# Altium footprint library xilinx-virtex-v5.PCBLIB: 1 footprints
Each footprint in its own frame and in the unit in brackets; x right, y up, seen from the top. Pads: shape width x height; smd on the part's side, far side on the other; paste and mask are expansions set on the pad; w line width, h text height; cw(c..) or ccw(c..) is an arc to the next point about the centre after c.
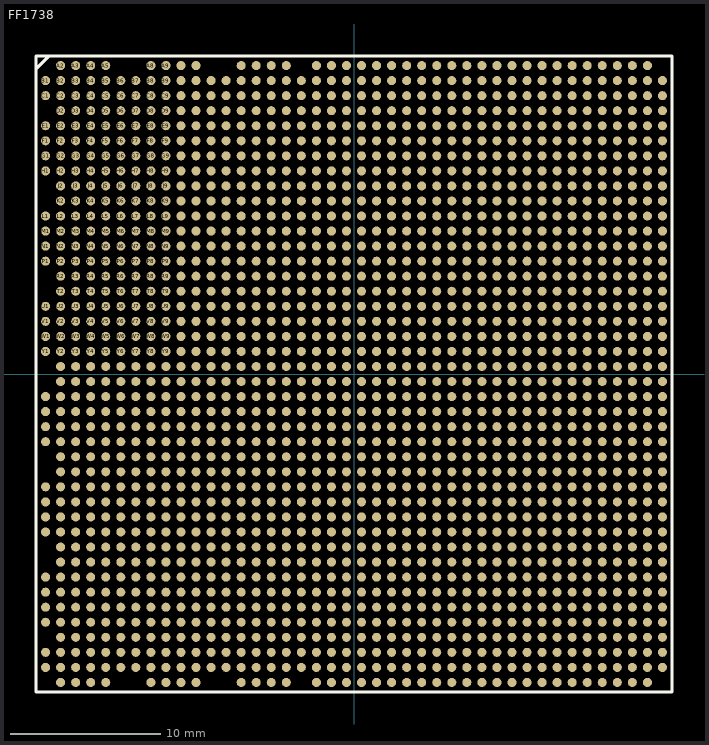
[diagram p0: the footprint, top view; thin cyan lines are the x and y axes]

## FF1738 [mil]
pads (1738):
  rrect100% 23.62x23.62 smd: A2(-767.72,807.09) A3(-728.35,807.09) A4(-688.98,807.09) A5(-649.61,807.09) A8(-531.5,807.09) A9(-492.13,807.09) A10(-452.76,807.09) A11(-413.39,807.09) A14(-295.28,807.09) A15(-255.91,807.09) A16(-216.54,807.09) A17(-177.17,807.09) A19(-98.43,807.09) A20(-59.06,807.09) A21(-19.69,807.09) A22(19.69,807.09) A23(59.06,807.09) A24(98.43,807.09) A25(137.8,807.09) A26(177.17,807.09) A27(216.54,807.09) A28(255.91,807.09) A29(295.28,807.09) A30(334.65,807.09) A31(374.02,807.09) A32(413.39,807.09) A33(452.76,807.09) A34(492.13,807.09) A35(531.5,807.09) A36(570.87,807.09) A37(610.24,807.09) A38(649.61,807.09) A39(688.98,807.09) A40(728.35,807.09) A41(767.72,807.09) AA2(-767.72,19.69) AA3(-728.35,19.69) AA4(-688.98,19.69) AA5(-649.61,19.69) AA6(-610.24,19.69) AA7(-570.87,19.69) AA8(-531.5,19.69) AA9(-492.13,19.69) AA10(-452.76,19.69) AA11(-413.39,19.69) AA12(-374.02,19.69) AA13(-334.65,19.69) AA14(-295.28,19.69) AA15(-255.91,19.69) AA16(-216.54,19.69) AA17(-177.17,19.69) AA18(-137.8,19.69) AA19(-98.43,19.69) AA20(-59.06,19.69) AA21(-19.69,19.69) AA22(19.69,19.69) AA23(59.06,19.69) AA24(98.43,19.69) AA25(137.8,19.69) AA26(177.17,19.69) AA27(216.54,19.69) AA28(255.91,19.69) AA29(295.28,19.69) AA30(334.65,19.69) AA31(374.02,19.69) AA32(413.39,19.69) AA33(452.76,19.69) AA34(492.13,19.69) AA35(531.5,19.69) AA36(570.87,19.69) AA37(610.24,19.69) AA38(649.61,19.69) AA39(688.98,19.69) AA40(728.35,19.69) AA41(767.72,19.69) AA42(807.09,19.69) AB2(-767.72,-19.69) AB3(-728.35,-19.69) AB4(-688.98,-19.69) AB5(-649.61,-19.69) AB6(-610.24,-19.69) AB7(-570.87,-19.69) AB8(-531.5,-19.69) AB9(-492.13,-19.69) AB10(-452.76,-19.69) AB11(-413.39,-19.69) AB12(-374.02,-19.69) AB13(-334.65,-19.69) AB14(-295.28,-19.69) AB15(-255.91,-19.69) AB16(-216.54,-19.69) AB17(-177.17,-19.69) AB18(-137.8,-19.69) AB19(-98.43,-19.69) AB20(-59.06,-19.69) AB21(-19.69,-19.69) AB22(19.69,-19.69) AB23(59.06,-19.69) AB24(98.43,-19.69) AB25(137.8,-19.69) AB26(177.17,-19.69) AB27(216.54,-19.69) AB28(255.91,-19.69) AB29(295.28,-19.69) AB30(334.65,-19.69) AB31(374.02,-19.69) AB32(413.39,-19.69) AB33(452.76,-19.69) AB34(492.13,-19.69) AB35(531.5,-19.69) AB36(570.87,-19.69) AB37(610.24,-19.69) AB38(649.61,-19.69) AB39(688.98,-19.69) AB40(728.35,-19.69) AB41(767.72,-19.69) AB42(807.09,-19.69) AC1(-807.09,-59.06) AC2(-767.72,-59.06) AC3(-728.35,-59.06) AC4(-688.98,-59.06) AC5(-649.61,-59.06) AC6(-610.24,-59.06) AC7(-570.87,-59.06) AC8(-531.5,-59.06) AC9(-492.13,-59.06) AC10(-452.76,-59.06) AC11(-413.39,-59.06) AC12(-374.02,-59.06) AC13(-334.65,-59.06) AC14(-295.28,-59.06) AC15(-255.91,-59.06) AC16(-216.54,-59.06) AC17(-177.17,-59.06) AC18(-137.8,-59.06) AC19(-98.43,-59.06) AC20(-59.06,-59.06) AC21(-19.69,-59.06) AC22(19.69,-59.06) AC23(59.06,-59.06) AC24(98.43,-59.06) AC25(137.8,-59.06) AC26(177.17,-59.06) AC27(216.54,-59.06) AC28(255.91,-59.06) AC29(295.28,-59.06) AC30(334.65,-59.06) AC31(374.02,-59.06) AC32(413.39,-59.06) AC33(452.76,-59.06) AC34(492.13,-59.06) AC35(531.5,-59.06) AC36(570.87,-59.06) AC37(610.24,-59.06) AC38(649.61,-59.06) AC39(688.98,-59.06) AC40(728.35,-59.06) AC41(767.72,-59.06) AC42(807.09,-59.06) AD1(-807.09,-98.43) AD2(-767.72,-98.43) AD3(-728.35,-98.43) AD4(-688.98,-98.43) AD5(-649.61,-98.43) AD6(-610.24,-98.43) AD7(-570.87,-98.43) AD8(-531.5,-98.43) AD9(-492.13,-98.43) AD10(-452.76,-98.43) AD11(-413.39,-98.43) AD12(-374.02,-98.43) AD13(-334.65,-98.43) AD14(-295.28,-98.43) AD15(-255.91,-98.43) AD16(-216.54,-98.43) AD17(-177.17,-98.43) AD18(-137.8,-98.43) AD19(-98.43,-98.43) AD20(-59.06,-98.43) AD21(-19.69,-98.43) AD22(19.69,-98.43) AD23(59.06,-98.43) AD24(98.43,-98.43) AD25(137.8,-98.43) AD26(177.17,-98.43) AD27(216.54,-98.43) AD28(255.91,-98.43) AD29(295.28,-98.43) AD30(334.65,-98.43) AD31(374.02,-98.43) AD32(413.39,-98.43) AD33(452.76,-98.43) AD34(492.13,-98.43) AD35(531.5,-98.43) AD36(570.87,-98.43) AD37(610.24,-98.43) AD38(649.61,-98.43) AD39(688.98,-98.43) AD40(728.35,-98.43) AD41(767.72,-98.43) AD42(807.09,-98.43) AE1(-807.09,-137.8) AE2(-767.72,-137.8) AE3(-728.35,-137.8) AE4(-688.98,-137.8) AE5(-649.61,-137.8) AE6(-610.24,-137.8) AE7(-570.87,-137.8) AE8(-531.5,-137.8) AE9(-492.13,-137.8) AE10(-452.76,-137.8) AE11(-413.39,-137.8) AE12(-374.02,-137.8) AE13(-334.65,-137.8) AE14(-295.28,-137.8) AE15(-255.91,-137.8) AE16(-216.54,-137.8) AE17(-177.17,-137.8) AE18(-137.8,-137.8) AE19(-98.43,-137.8) AE20(-59.06,-137.8) AE21(-19.69,-137.8) AE22(19.69,-137.8) AE23(59.06,-137.8) AE24(98.43,-137.8) AE25(137.8,-137.8) AE26(177.17,-137.8) AE27(216.54,-137.8) AE28(255.91,-137.8) AE29(295.28,-137.8) AE30(334.65,-137.8) AE31(374.02,-137.8) AE32(413.39,-137.8) AE33(452.76,-137.8) AE34(492.13,-137.8) AE35(531.5,-137.8) AE36(570.87,-137.8) AE37(610.24,-137.8) AE38(649.61,-137.8) AE39(688.98,-137.8) AE40(728.35,-137.8) AE41(767.72,-137.8) AE42(807.09,-137.8) AF1(-807.09,-177.17) AF2(-767.72,-177.17) AF3(-728.35,-177.17) AF4(-688.98,-177.17) AF5(-649.61,-177.17) AF6(-610.24,-177.17) AF7(-570.87,-177.17) AF8(-531.5,-177.17) AF9(-492.13,-177.17) AF10(-452.76,-177.17) AF11(-413.39,-177.17) AF12(-374.02,-177.17) AF13(-334.65,-177.17) AF14(-295.28,-177.17) AF15(-255.91,-177.17) AF16(-216.54,-177.17) AF17(-177.17,-177.17) AF18(-137.8,-177.17) AF19(-98.43,-177.17) AF20(-59.06,-177.17) AF21(-19.69,-177.17) AF22(19.69,-177.17) AF23(59.06,-177.17) AF24(98.43,-177.17) AF25(137.8,-177.17) AF26(177.17,-177.17) AF27(216.54,-177.17) AF28(255.91,-177.17) AF29(295.28,-177.17) AF30(334.65,-177.17) AF31(374.02,-177.17) AF32(413.39,-177.17) AF33(452.76,-177.17) AF34(492.13,-177.17) AF35(531.5,-177.17) AF36(570.87,-177.17) AF37(610.24,-177.17) AF38(649.61,-177.17) AF39(688.98,-177.17) AF40(728.35,-177.17) AF41(767.72,-177.17) AF42(807.09,-177.17) AG2(-767.72,-216.54) AG3(-728.35,-216.54) AG4(-688.98,-216.54) AG5(-649.61,-216.54) AG6(-610.24,-216.54) AG7(-570.87,-216.54) AG8(-531.5,-216.54) AG9(-492.13,-216.54) AG10(-452.76,-216.54) AG11(-413.39,-216.54) AG12(-374.02,-216.54) AG13(-334.65,-216.54) AG14(-295.28,-216.54) AG15(-255.91,-216.54) AG16(-216.54,-216.54) AG17(-177.17,-216.54) AG18(-137.8,-216.54) AG19(-98.43,-216.54) AG20(-59.06,-216.54) AG21(-19.69,-216.54) AG22(19.69,-216.54) AG23(59.06,-216.54) AG24(98.43,-216.54) AG25(137.8,-216.54) AG26(177.17,-216.54) AG27(216.54,-216.54) AG28(255.91,-216.54) AG29(295.28,-216.54) AG30(334.65,-216.54) AG31(374.02,-216.54) AG32(413.39,-216.54) AG33(452.76,-216.54) AG34(492.13,-216.54) AG35(531.5,-216.54) AG36(570.87,-216.54) AG37(610.24,-216.54) AG38(649.61,-216.54) AG39(688.98,-216.54) AG40(728.35,-216.54) AG41(767.72,-216.54) AG42(807.09,-216.54) AH2(-767.72,-255.91) AH3(-728.35,-255.91) AH4(-688.98,-255.91) AH5(-649.61,-255.91) AH6(-610.24,-255.91) AH7(-570.87,-255.91) AH8(-531.5,-255.91) AH9(-492.13,-255.91) AH10(-452.76,-255.91) AH11(-413.39,-255.91) AH12(-374.02,-255.91) AH13(-334.65,-255.91) AH14(-295.28,-255.91) AH15(-255.91,-255.91) AH16(-216.54,-255.91) AH17(-177.17,-255.91) AH18(-137.8,-255.91) AH19(-98.43,-255.91) AH20(-59.06,-255.91) AH21(-19.69,-255.91) AH22(19.69,-255.91) AH23(59.06,-255.91) AH24(98.43,-255.91) AH25(137.8,-255.91) AH26(177.17,-255.91) AH27(216.54,-255.91) AH28(255.91,-255.91) AH29(295.28,-255.91) AH30(334.65,-255.91) AH31(374.02,-255.91) AH32(413.39,-255.91) AH33(452.76,-255.91) AH34(492.13,-255.91) AH35(531.5,-255.91) AH36(570.87,-255.91) AH37(610.24,-255.91) AH38(649.61,-255.91) AH39(688.98,-255.91) AH40(728.35,-255.91) AH41(767.72,-255.91) AH42(807.09,-255.91) AJ1(-807.09,-295.28) AJ2(-767.72,-295.28) AJ3(-728.35,-295.28) AJ4(-688.98,-295.28) AJ5(-649.61,-295.28) AJ6(-610.24,-295.28) AJ7(-570.87,-295.28) AJ8(-531.5,-295.28) AJ9(-492.13,-295.28) AJ10(-452.76,-295.28) AJ11(-413.39,-295.28) AJ12(-374.02,-295.28) AJ13(-334.65,-295.28) AJ14(-295.28,-295.28) AJ15(-255.91,-295.28) AJ16(-216.54,-295.28) AJ17(-177.17,-295.28) AJ18(-137.8,-295.28) AJ19(-98.43,-295.28) AJ20(-59.06,-295.28) AJ21(-19.69,-295.28) AJ22(19.69,-295.28) AJ23(59.06,-295.28) AJ24(98.43,-295.28) AJ25(137.8,-295.28) AJ26(177.17,-295.28) AJ27(216.54,-295.28) AJ28(255.91,-295.28) AJ29(295.28,-295.28) AJ30(334.65,-295.28) AJ31(374.02,-295.28) AJ32(413.39,-295.28) AJ33(452.76,-295.28) AJ34(492.13,-295.28) AJ35(531.5,-295.28) AJ36(570.87,-295.28) AJ37(610.24,-295.28) AJ38(649.61,-295.28) AJ39(688.98,-295.28) AJ40(728.35,-295.28) AJ41(767.72,-295.28) AJ42(807.09,-295.28) AK1(-807.09,-334.65) AK2(-767.72,-334.65) AK3(-728.35,-334.65) AK4(-688.98,-334.65) AK5(-649.61,-334.65) AK6(-610.24,-334.65) AK7(-570.87,-334.65) AK8(-531.5,-334.65) AK9(-492.13,-334.65) AK10(-452.76,-334.65) AK11(-413.39,-334.65) AK12(-374.02,-334.65) AK13(-334.65,-334.65) AK14(-295.28,-334.65) AK15(-255.91,-334.65) AK16(-216.54,-334.65) AK17(-177.17,-334.65) AK18(-137.8,-334.65) AK19(-98.43,-334.65) AK20(-59.06,-334.65) AK21(-19.69,-334.65) AK22(19.69,-334.65) AK23(59.06,-334.65) AK24(98.43,-334.65) AK25(137.8,-334.65) AK26(177.17,-334.65) AK27(216.54,-334.65) AK28(255.91,-334.65) AK29(295.28,-334.65) AK30(334.65,-334.65) AK31(374.02,-334.65) AK32(413.39,-334.65) AK33(452.76,-334.65) AK34(492.13,-334.65) AK35(531.5,-334.65) AK36(570.87,-334.65) AK37(610.24,-334.65) AK38(649.61,-334.65) AK39(688.98,-334.65) AK40(728.35,-334.65) AK41(767.72,-334.65) AK42(807.09,-334.65) AL1(-807.09,-374.02) AL2(-767.72,-374.02) AL3(-728.35,-374.02) AL4(-688.98,-374.02) AL5(-649.61,-374.02) AL6(-610.24,-374.02) AL7(-570.87,-374.02) AL8(-531.5,-374.02) AL9(-492.13,-374.02) AL10(-452.76,-374.02) AL11(-413.39,-374.02) AL12(-374.02,-374.02) AL13(-334.65,-374.02) AL14(-295.28,-374.02) AL15(-255.91,-374.02) AL16(-216.54,-374.02) AL17(-177.17,-374.02) AL18(-137.8,-374.02) AL19(-98.43,-374.02) AL20(-59.06,-374.02) AL21(-19.69,-374.02) AL22(19.69,-374.02) AL23(59.06,-374.02) AL24(98.43,-374.02) AL25(137.8,-374.02) AL26(177.17,-374.02) AL27(216.54,-374.02) AL28(255.91,-374.02) AL29(295.28,-374.02) AL30(334.65,-374.02) AL31(374.02,-374.02) AL32(413.39,-374.02) AL33(452.76,-374.02) AL34(492.13,-374.02) AL35(531.5,-374.02) AL36(570.87,-374.02) AL37(610.24,-374.02) AL38(649.61,-374.02) AL39(688.98,-374.02) AL40(728.35,-374.02) AL41(767.72,-374.02) AL42(807.09,-374.02) AM1(-807.09,-413.39) AM2(-767.72,-413.39) AM3(-728.35,-413.39) AM4(-688.98,-413.39) AM5(-649.61,-413.39) AM6(-610.24,-413.39) AM7(-570.87,-413.39) AM8(-531.5,-413.39) AM9(-492.13,-413.39) AM10(-452.76,-413.39) AM11(-413.39,-413.39) AM12(-374.02,-413.39) AM13(-334.65,-413.39) AM14(-295.28,-413.39) AM15(-255.91,-413.39) AM16(-216.54,-413.39) AM17(-177.17,-413.39) AM18(-137.8,-413.39) AM19(-98.43,-413.39) AM20(-59.06,-413.39) AM21(-19.69,-413.39) AM22(19.69,-413.39) AM23(59.06,-413.39) AM24(98.43,-413.39) AM25(137.8,-413.39) AM26(177.17,-413.39) AM27(216.54,-413.39) AM28(255.91,-413.39) AM29(295.28,-413.39) AM30(334.65,-413.39) AM31(374.02,-413.39) AM32(413.39,-413.39) AM33(452.76,-413.39) AM34(492.13,-413.39) AM35(531.5,-413.39) AM36(570.87,-413.39) AM37(610.24,-413.39) AM38(649.61,-413.39) AM39(688.98,-413.39) AM40(728.35,-413.39) AM41(767.72,-413.39) AM42(807.09,-413.39) AN2(-767.72,-452.76) AN3(-728.35,-452.76) AN4(-688.98,-452.76) AN5(-649.61,-452.76) AN6(-610.24,-452.76) AN7(-570.87,-452.76) AN8(-531.5,-452.76) AN9(-492.13,-452.76) AN10(-452.76,-452.76) AN11(-413.39,-452.76) AN12(-374.02,-452.76) AN13(-334.65,-452.76) AN14(-295.28,-452.76) AN15(-255.91,-452.76) AN16(-216.54,-452.76) AN17(-177.17,-452.76) AN18(-137.8,-452.76) AN19(-98.43,-452.76) AN20(-59.06,-452.76) AN21(-19.69,-452.76) AN22(19.69,-452.76) AN23(59.06,-452.76) AN24(98.43,-452.76) AN25(137.8,-452.76) AN26(177.17,-452.76) AN27(216.54,-452.76) AN28(255.91,-452.76) AN29(295.28,-452.76) AN30(334.65,-452.76) AN31(374.02,-452.76) AN32(413.39,-452.76) AN33(452.76,-452.76) AN34(492.13,-452.76) AN35(531.5,-452.76) AN36(570.87,-452.76) AN37(610.24,-452.76) AN38(649.61,-452.76) AN39(688.98,-452.76) AN40(728.35,-452.76) AN41(767.72,-452.76) AN42(807.09,-452.76) AP2(-767.72,-492.13) AP3(-728.35,-492.13) AP4(-688.98,-492.13) AP5(-649.61,-492.13) AP6(-610.24,-492.13) AP7(-570.87,-492.13) AP8(-531.5,-492.13) AP9(-492.13,-492.13) AP10(-452.76,-492.13) AP11(-413.39,-492.13) AP12(-374.02,-492.13) AP13(-334.65,-492.13) AP14(-295.28,-492.13) AP15(-255.91,-492.13) AP16(-216.54,-492.13) AP17(-177.17,-492.13) AP18(-137.8,-492.13) AP19(-98.43,-492.13) AP20(-59.06,-492.13) AP21(-19.69,-492.13) AP22(19.69,-492.13) AP23(59.06,-492.13) AP24(98.43,-492.13) AP25(137.8,-492.13) AP26(177.17,-492.13) AP27(216.54,-492.13) AP28(255.91,-492.13) AP29(295.28,-492.13) AP30(334.65,-492.13) AP31(374.02,-492.13) AP32(413.39,-492.13) AP33(452.76,-492.13) AP34(492.13,-492.13) AP35(531.5,-492.13) AP36(570.87,-492.13) AP37(610.24,-492.13) AP38(649.61,-492.13) AP39(688.98,-492.13) AP40(728.35,-492.13) AP41(767.72,-492.13) AP42(807.09,-492.13) AR1(-807.09,-531.5) AR2(-767.72,-531.5) AR3(-728.35,-531.5) AR4(-688.98,-531.5) AR5(-649.61,-531.5) AR6(-610.24,-531.5) AR7(-570.87,-531.5) AR8(-531.5,-531.5) AR9(-492.13,-531.5) AR10(-452.76,-531.5) AR11(-413.39,-531.5) AR12(-374.02,-531.5) AR13(-334.65,-531.5) AR14(-295.28,-531.5) AR15(-255.91,-531.5) AR16(-216.54,-531.5) AR17(-177.17,-531.5) AR18(-137.8,-531.5) AR19(-98.43,-531.5) AR20(-59.06,-531.5) AR21(-19.69,-531.5) AR22(19.69,-531.5) AR23(59.06,-531.5) AR24(98.43,-531.5) AR25(137.8,-531.5) AR26(177.17,-531.5) AR27(216.54,-531.5) AR28(255.91,-531.5) AR29(295.28,-531.5) AR30(334.65,-531.5) AR31(374.02,-531.5) AR32(413.39,-531.5) AR33(452.76,-531.5) AR34(492.13,-531.5) AR35(531.5,-531.5) AR36(570.87,-531.5) AR37(610.24,-531.5) AR38(649.61,-531.5) AR39(688.98,-531.5) AR40(728.35,-531.5) AR41(767.72,-531.5) AR42(807.09,-531.5) AT1(-807.09,-570.87) AT2(-767.72,-570.87) AT3(-728.35,-570.87) AT4(-688.98,-570.87) AT5(-649.61,-570.87) AT6(-610.24,-570.87) AT7(-570.87,-570.87) AT8(-531.5,-570.87) AT9(-492.13,-570.87) AT10(-452.76,-570.87) AT11(-413.39,-570.87) AT12(-374.02,-570.87) AT13(-334.65,-570.87) AT14(-295.28,-570.87) AT15(-255.91,-570.87) AT16(-216.54,-570.87) AT17(-177.17,-570.87) AT18(-137.8,-570.87) AT19(-98.43,-570.87) AT20(-59.06,-570.87) AT21(-19.69,-570.87) AT22(19.69,-570.87) AT23(59.06,-570.87) AT24(98.43,-570.87) AT25(137.8,-570.87) AT26(177.17,-570.87) AT27(216.54,-570.87) AT28(255.91,-570.87) AT29(295.28,-570.87) AT30(334.65,-570.87) AT31(374.02,-570.87) AT32(413.39,-570.87) AT33(452.76,-570.87) AT34(492.13,-570.87) AT35(531.5,-570.87) AT36(570.87,-570.87) AT37(610.24,-570.87) AT38(649.61,-570.87) AT39(688.98,-570.87) AT40(728.35,-570.87) AT41(767.72,-570.87) AT42(807.09,-570.87) AU1(-807.09,-610.24) AU2(-767.72,-610.24) AU3(-728.35,-610.24) AU4(-688.98,-610.24) AU5(-649.61,-610.24) AU6(-610.24,-610.24) AU7(-570.87,-610.24) AU8(-531.5,-610.24) AU9(-492.13,-610.24) AU10(-452.76,-610.24) AU11(-413.39,-610.24) AU12(-374.02,-610.24) AU13(-334.65,-610.24) AU14(-295.28,-610.24) AU15(-255.91,-610.24) AU16(-216.54,-610.24) AU17(-177.17,-610.24) AU18(-137.8,-610.24) AU19(-98.43,-610.24) AU20(-59.06,-610.24) AU21(-19.69,-610.24) AU22(19.69,-610.24) AU23(59.06,-610.24) AU24(98.43,-610.24) AU25(137.8,-610.24) AU26(177.17,-610.24) AU27(216.54,-610.24) AU28(255.91,-610.24) AU29(295.28,-610.24) AU30(334.65,-610.24) AU31(374.02,-610.24) AU32(413.39,-610.24) AU33(452.76,-610.24) AU34(492.13,-610.24) AU35(531.5,-610.24) AU36(570.87,-610.24) AU37(610.24,-610.24) AU38(649.61,-610.24) AU39(688.98,-610.24) AU40(728.35,-610.24) AU41(767.72,-610.24) AU42(807.09,-610.24) AV1(-807.09,-649.61) AV2(-767.72,-649.61) AV3(-728.35,-649.61) AV4(-688.98,-649.61) AV5(-649.61,-649.61) AV6(-610.24,-649.61) AV7(-570.87,-649.61) AV8(-531.5,-649.61) AV9(-492.13,-649.61) AV10(-452.76,-649.61) AV11(-413.39,-649.61) AV12(-374.02,-649.61) AV13(-334.65,-649.61) AV14(-295.28,-649.61) AV15(-255.91,-649.61) AV16(-216.54,-649.61) AV17(-177.17,-649.61) AV18(-137.8,-649.61) AV19(-98.43,-649.61) AV20(-59.06,-649.61) AV21(-19.69,-649.61) AV22(19.69,-649.61) AV23(59.06,-649.61) AV24(98.43,-649.61) AV25(137.8,-649.61) AV26(177.17,-649.61) AV27(216.54,-649.61) AV28(255.91,-649.61) AV29(295.28,-649.61) AV30(334.65,-649.61) AV31(374.02,-649.61) AV32(413.39,-649.61) AV33(452.76,-649.61) AV34(492.13,-649.61) AV35(531.5,-649.61) AV36(570.87,-649.61) AV37(610.24,-649.61) AV38(649.61,-649.61) AV39(688.98,-649.61) AV40(728.35,-649.61) AV41(767.72,-649.61) AV42(807.09,-649.61) AW2(-767.72,-688.98) AW3(-728.35,-688.98) AW4(-688.98,-688.98) AW5(-649.61,-688.98) AW6(-610.24,-688.98) AW7(-570.87,-688.98) AW8(-531.5,-688.98) AW9(-492.13,-688.98) AW10(-452.76,-688.98) AW11(-413.39,-688.98) AW12(-374.02,-688.98) AW13(-334.65,-688.98) AW14(-295.28,-688.98) AW15(-255.91,-688.98) AW16(-216.54,-688.98) AW17(-177.17,-688.98) AW18(-137.8,-688.98) AW19(-98.43,-688.98) AW20(-59.06,-688.98) AW21(-19.69,-688.98) AW22(19.69,-688.98) AW23(59.06,-688.98) AW24(98.43,-688.98) AW25(137.8,-688.98) AW26(177.17,-688.98) AW27(216.54,-688.98) AW28(255.91,-688.98) AW29(295.28,-688.98) AW30(334.65,-688.98) AW31(374.02,-688.98) AW32(413.39,-688.98) AW33(452.76,-688.98) AW34(492.13,-688.98) AW35(531.5,-688.98) AW36(570.87,-688.98) AW37(610.24,-688.98) AW38(649.61,-688.98) AW39(688.98,-688.98) AW40(728.35,-688.98) AW41(767.72,-688.98) AW42(807.09,-688.98) AY1(-807.09,-728.35) AY2(-767.72,-728.35) AY3(-728.35,-728.35) AY4(-688.98,-728.35) AY5(-649.61,-728.35) AY6(-610.24,-728.35) AY7(-570.87,-728.35) AY8(-531.5,-728.35) AY9(-492.13,-728.35) AY10(-452.76,-728.35) AY11(-413.39,-728.35) AY12(-374.02,-728.35) AY13(-334.65,-728.35) AY14(-295.28,-728.35) AY15(-255.91,-728.35) AY16(-216.54,-728.35) AY17(-177.17,-728.35) AY18(-137.8,-728.35) AY19(-98.43,-728.35) AY20(-59.06,-728.35) AY21(-19.69,-728.35) AY22(19.69,-728.35) AY23(59.06,-728.35) AY24(98.43,-728.35) AY25(137.8,-728.35) AY26(177.17,-728.35) AY27(216.54,-728.35) AY28(255.91,-728.35) AY29(295.28,-728.35) AY30(334.65,-728.35) AY31(374.02,-728.35) AY32(413.39,-728.35) AY33(452.76,-728.35) AY34(492.13,-728.35) AY35(531.5,-728.35) AY36(570.87,-728.35) AY37(610.24,-728.35) AY38(649.61,-728.35) AY39(688.98,-728.35) AY40(728.35,-728.35) AY41(767.72,-728.35) AY42(807.09,-728.35) B1(-807.09,767.72) B2(-767.72,767.72) B3(-728.35,767.72) B4(-688.98,767.72) B5(-649.61,767.72) B6(-610.24,767.72) B7(-570.87,767.72) B8(-531.5,767.72) B9(-492.13,767.72) B10(-452.76,767.72) B11(-413.39,767.72) B12(-374.02,767.72) B13(-334.65,767.72) B14(-295.28,767.72) B15(-255.91,767.72) B16(-216.54,767.72) B17(-177.17,767.72) B18(-137.8,767.72) B19(-98.43,767.72) B20(-59.06,767.72) B21(-19.69,767.72) B22(19.69,767.72) B23(59.06,767.72) B24(98.43,767.72) B25(137.8,767.72) B26(177.17,767.72) B27(216.54,767.72) B28(255.91,767.72) B29(295.28,767.72) B30(334.65,767.72) B31(374.02,767.72) B32(413.39,767.72) B33(452.76,767.72) B34(492.13,767.72) B35(531.5,767.72) B36(570.87,767.72) B37(610.24,767.72) B38(649.61,767.72) B39(688.98,767.72) B40(728.35,767.72) B41(767.72,767.72) B42(807.09,767.72) BA1(-807.09,-767.72) BA2(-767.72,-767.72) BA3(-728.35,-767.72) BA4(-688.98,-767.72) BA5(-649.61,-767.72) BA6(-610.24,-767.72) BA7(-570.87,-767.72) BA8(-531.5,-767.72) BA9(-492.13,-767.72) BA10(-452.76,-767.72) BA11(-413.39,-767.72) BA12(-374.02,-767.72) BA13(-334.65,-767.72) BA14(-295.28,-767.72) BA15(-255.91,-767.72) BA16(-216.54,-767.72) BA17(-177.17,-767.72) BA18(-137.8,-767.72) BA19(-98.43,-767.72) BA20(-59.06,-767.72) BA21(-19.69,-767.72) BA22(19.69,-767.72) BA23(59.06,-767.72) BA24(98.43,-767.72) BA25(137.8,-767.72) BA26(177.17,-767.72) BA27(216.54,-767.72) BA28(255.91,-767.72) BA29(295.28,-767.72) BA30(334.65,-767.72) BA31(374.02,-767.72) BA32(413.39,-767.72) BA33(452.76,-767.72) BA34(492.13,-767.72) BA35(531.5,-767.72) BA36(570.87,-767.72) BA37(610.24,-767.72) BA38(649.61,-767.72) BA39(688.98,-767.72) BA40(728.35,-767.72) BA41(767.72,-767.72) BA42(807.09,-767.72) BB2(-767.72,-807.09) BB3(-728.35,-807.09) BB4(-688.98,-807.09) BB5(-649.61,-807.09) BB8(-531.5,-807.09) BB9(-492.13,-807.09) BB10(-452.76,-807.09) BB11(-413.39,-807.09) BB14(-295.28,-807.09) BB15(-255.91,-807.09) BB16(-216.54,-807.09) BB17(-177.17,-807.09) BB19(-98.43,-807.09) BB20(-59.06,-807.09) BB21(-19.69,-807.09) BB22(19.69,-807.09) BB23(59.06,-807.09) BB24(98.43,-807.09) BB25(137.8,-807.09) BB26(177.17,-807.09) BB27(216.54,-807.09) BB28(255.91,-807.09) BB29(295.28,-807.09) BB30(334.65,-807.09) BB31(374.02,-807.09) BB32(413.39,-807.09) BB33(452.76,-807.09) BB34(492.13,-807.09) BB35(531.5,-807.09) BB36(570.87,-807.09) BB37(610.24,-807.09) BB38(649.61,-807.09) BB39(688.98,-807.09) BB40(728.35,-807.09) BB41(767.72,-807.09) C1(-807.09,728.35) C2(-767.72,728.35) C3(-728.35,728.35) C4(-688.98,728.35) C5(-649.61,728.35) C6(-610.24,728.35) C7(-570.87,728.35) C8(-531.5,728.35) C9(-492.13,728.35) C10(-452.76,728.35) C11(-413.39,728.35) C12(-374.02,728.35) C13(-334.65,728.35) C14(-295.28,728.35) C15(-255.91,728.35) C16(-216.54,728.35) C17(-177.17,728.35) C18(-137.8,728.35) C19(-98.43,728.35) C20(-59.06,728.35) C21(-19.69,728.35) C22(19.69,728.35) C23(59.06,728.35) C24(98.43,728.35) C25(137.8,728.35) C26(177.17,728.35) C27(216.54,728.35) C28(255.91,728.35) C29(295.28,728.35) C30(334.65,728.35) C31(374.02,728.35) C32(413.39,728.35) C33(452.76,728.35) C34(492.13,728.35) C35(531.5,728.35) C36(570.87,728.35) C37(610.24,728.35) C38(649.61,728.35) C39(688.98,728.35) C40(728.35,728.35) C41(767.72,728.35) C42(807.09,728.35) D2(-767.72,688.98) D3(-728.35,688.98) D4(-688.98,688.98) D5(-649.61,688.98) D6(-610.24,688.98) D7(-570.87,688.98) D8(-531.5,688.98) D9(-492.13,688.98) D10(-452.76,688.98) D11(-413.39,688.98) D12(-374.02,688.98) D13(-334.65,688.98) D14(-295.28,688.98) D15(-255.91,688.98) D16(-216.54,688.98) D17(-177.17,688.98) D18(-137.8,688.98) D19(-98.43,688.98) D20(-59.06,688.98) D21(-19.69,688.98) D22(19.69,688.98) D23(59.06,688.98) D24(98.43,688.98) D25(137.8,688.98) D26(177.17,688.98) D27(216.54,688.98) D28(255.91,688.98) D29(295.28,688.98) D30(334.65,688.98) D31(374.02,688.98) D32(413.39,688.98) D33(452.76,688.98) D34(492.13,688.98) D35(531.5,688.98) D36(570.87,688.98) D37(610.24,688.98) D38(649.61,688.98) D39(688.98,688.98) D40(728.35,688.98) D41(767.72,688.98) D42(807.09,688.98) E1(-807.09,649.61) E2(-767.72,649.61) E3(-728.35,649.61) E4(-688.98,649.61) E5(-649.61,649.61) E6(-610.24,649.61) E7(-570.87,649.61) E8(-531.5,649.61) E9(-492.13,649.61) E10(-452.76,649.61) E11(-413.39,649.61) E12(-374.02,649.61) E13(-334.65,649.61) E14(-295.28,649.61) E15(-255.91,649.61) E16(-216.54,649.61) E17(-177.17,649.61) E18(-137.8,649.61) E19(-98.43,649.61) E20(-59.06,649.61) E21(-19.69,649.61) E22(19.69,649.61) E23(59.06,649.61) E24(98.43,649.61) E25(137.8,649.61) E26(177.17,649.61) E27(216.54,649.61) E28(255.91,649.61) E29(295.28,649.61) E30(334.65,649.61) E31(374.02,649.61) E32(413.39,649.61) E33(452.76,649.61) E34(492.13,649.61) E35(531.5,649.61) E36(570.87,649.61) E37(610.24,649.61) E38(649.61,649.61) E39(688.98,649.61) E40(728.35,649.61) E41(767.72,649.61) E42(807.09,649.61) F1(-807.09,610.24) F2(-767.72,610.24) F3(-728.35,610.24) F4(-688.98,610.24) F5(-649.61,610.24) F6(-610.24,610.24) F7(-570.87,610.24) F8(-531.5,610.24) F9(-492.13,610.24) F10(-452.76,610.24) F11(-413.39,610.24) F12(-374.02,610.24) F13(-334.65,610.24) F14(-295.28,610.24) F15(-255.91,610.24) F16(-216.54,610.24) F17(-177.17,610.24) F18(-137.8,610.24) F19(-98.43,610.24) F20(-59.06,610.24) F21(-19.69,610.24) F22(19.69,610.24) F23(59.06,610.24) F24(98.43,610.24) F25(137.8,610.24) F26(177.17,610.24) F27(216.54,610.24) F28(255.91,610.24) F29(295.28,610.24) F30(334.65,610.24) F31(374.02,610.24) F32(413.39,610.24) F33(452.76,610.24) F34(492.13,610.24) F35(531.5,610.24) F36(570.87,610.24) F37(610.24,610.24) F38(649.61,610.24) F39(688.98,610.24) F40(728.35,610.24) F41(767.72,610.24) F42(807.09,610.24) G1(-807.09,570.87) G2(-767.72,570.87) G3(-728.35,570.87) G4(-688.98,570.87) G5(-649.61,570.87) G6(-610.24,570.87) G7(-570.87,570.87) G8(-531.5,570.87) G9(-492.13,570.87) G10(-452.76,570.87) G11(-413.39,570.87) G12(-374.02,570.87) G13(-334.65,570.87) G14(-295.28,570.87) G15(-255.91,570.87) G16(-216.54,570.87) G17(-177.17,570.87) G18(-137.8,570.87) G19(-98.43,570.87) G20(-59.06,570.87) G21(-19.69,570.87) G22(19.69,570.87) G23(59.06,570.87) G24(98.43,570.87) G25(137.8,570.87) G26(177.17,570.87) G27(216.54,570.87) G28(255.91,570.87) G29(295.28,570.87) G30(334.65,570.87) G31(374.02,570.87) G32(413.39,570.87) G33(452.76,570.87) G34(492.13,570.87) G35(531.5,570.87) G36(570.87,570.87) G37(610.24,570.87) G38(649.61,570.87) G39(688.98,570.87) G40(728.35,570.87) G41(767.72,570.87) G42(807.09,570.87) H1(-807.09,531.5) H2(-767.72,531.5) H3(-728.35,531.5) H4(-688.98,531.5) H5(-649.61,531.5) H6(-610.24,531.5) H7(-570.87,531.5) H8(-531.5,531.5) H9(-492.13,531.5) H10(-452.76,531.5) H11(-413.39,531.5) H12(-374.02,531.5) H13(-334.65,531.5) H14(-295.28,531.5) H15(-255.91,531.5) H16(-216.54,531.5) H17(-177.17,531.5) H18(-137.8,531.5) H19(-98.43,531.5) H20(-59.06,531.5) H21(-19.69,531.5) H22(19.69,531.5) H23(59.06,531.5) H24(98.43,531.5) H25(137.8,531.5) H26(177.17,531.5) H27(216.54,531.5) H28(255.91,531.5) H29(295.28,531.5) H30(334.65,531.5) H31(374.02,531.5) H32(413.39,531.5) H33(452.76,531.5) H34(492.13,531.5) H35(531.5,531.5) H36(570.87,531.5) H37(610.24,531.5) H38(649.61,531.5) H39(688.98,531.5) H40(728.35,531.5) H41(767.72,531.5) H42(807.09,531.5) J2(-767.72,492.13) J3(-728.35,492.13) J4(-688.98,492.13) J5(-649.61,492.13) J6(-610.24,492.13) J7(-570.87,492.13) J8(-531.5,492.13) J9(-492.13,492.13) J10(-452.76,492.13) J11(-413.39,492.13) J12(-374.02,492.13) J13(-334.65,492.13) J14(-295.28,492.13) J15(-255.91,492.13) J16(-216.54,492.13) J17(-177.17,492.13) J18(-137.8,492.13) J19(-98.43,492.13) J20(-59.06,492.13) J21(-19.69,492.13) J22(19.69,492.13) J23(59.06,492.13) J24(98.43,492.13) J25(137.8,492.13) J26(177.17,492.13) J27(216.54,492.13) J28(255.91,492.13) J29(295.28,492.13) J30(334.65,492.13) J31(374.02,492.13) J32(413.39,492.13) J33(452.76,492.13) J34(492.13,492.13) J35(531.5,492.13) J36(570.87,492.13) J37(610.24,492.13) J38(649.61,492.13) J39(688.98,492.13) J40(728.35,492.13) J41(767.72,492.13) J42(807.09,492.13) K2(-767.72,452.76) K3(-728.35,452.76) K4(-688.98,452.76) K5(-649.61,452.76) K6(-610.24,452.76) K7(-570.87,452.76) K8(-531.5,452.76) K9(-492.13,452.76) K10(-452.76,452.76) K11(-413.39,452.76) K12(-374.02,452.76) K13(-334.65,452.76) K14(-295.28,452.76) K15(-255.91,452.76) K16(-216.54,452.76) K17(-177.17,452.76) K18(-137.8,452.76) K19(-98.43,452.76) K20(-59.06,452.76) K21(-19.69,452.76) K22(19.69,452.76) K23(59.06,452.76) K24(98.43,452.76) K25(137.8,452.76) K26(177.17,452.76) K27(216.54,452.76) K28(255.91,452.76) K29(295.28,452.76) K30(334.65,452.76) K31(374.02,452.76) K32(413.39,452.76) K33(452.76,452.76) K34(492.13,452.76) K35(531.5,452.76) K36(570.87,452.76) K37(610.24,452.76) K38(649.61,452.76) K39(688.98,452.76) K40(728.35,452.76) K41(767.72,452.76) K42(807.09,452.76) L1(-807.09,413.39) L2(-767.72,413.39) L3(-728.35,413.39) L4(-688.98,413.39) L5(-649.61,413.39) L6(-610.24,413.39) L7(-570.87,413.39) L8(-531.5,413.39) L9(-492.13,413.39) L10(-452.76,413.39) L11(-413.39,413.39) L12(-374.02,413.39) L13(-334.65,413.39) L14(-295.28,413.39) L15(-255.91,413.39) L16(-216.54,413.39) L17(-177.17,413.39) L18(-137.8,413.39) L19(-98.43,413.39) L20(-59.06,413.39) L21(-19.69,413.39) L22(19.69,413.39) L23(59.06,413.39) L24(98.43,413.39) L25(137.8,413.39) L26(177.17,413.39) L27(216.54,413.39) L28(255.91,413.39) L29(295.28,413.39) L30(334.65,413.39) L31(374.02,413.39) L32(413.39,413.39) L33(452.76,413.39) L34(492.13,413.39) L35(531.5,413.39) L36(570.87,413.39) L37(610.24,413.39) L38(649.61,413.39) L39(688.98,413.39) L40(728.35,413.39) L41(767.72,413.39) L42(807.09,413.39) M1(-807.09,374.02) M2(-767.72,374.02) M3(-728.35,374.02) M4(-688.98,374.02) M5(-649.61,374.02) M6(-610.24,374.02) M7(-570.87,374.02) M8(-531.5,374.02) M9(-492.13,374.02) M10(-452.76,374.02) M11(-413.39,374.02) M12(-374.02,374.02) M13(-334.65,374.02) M14(-295.28,374.02) M15(-255.91,374.02) M16(-216.54,374.02) M17(-177.17,374.02) M18(-137.8,374.02) M19(-98.43,374.02) M20(-59.06,374.02) M21(-19.69,374.02) M22(19.69,374.02) M23(59.06,374.02) M24(98.43,374.02) M25(137.8,374.02) M26(177.17,374.02) M27(216.54,374.02) M28(255.91,374.02) M29(295.28,374.02) M30(334.65,374.02) M31(374.02,374.02) M32(413.39,374.02) M33(452.76,374.02) M34(492.13,374.02) M35(531.5,374.02) M36(570.87,374.02) M37(610.24,374.02) M38(649.61,374.02) M39(688.98,374.02) M40(728.35,374.02) M41(767.72,374.02) M42(807.09,374.02) N1(-807.09,334.65) N2(-767.72,334.65) N3(-728.35,334.65) N4(-688.98,334.65) N5(-649.61,334.65) N6(-610.24,334.65) N7(-570.87,334.65) N8(-531.5,334.65) N9(-492.13,334.65) N10(-452.76,334.65) N11(-413.39,334.65) N12(-374.02,334.65) N13(-334.65,334.65) N14(-295.28,334.65) N15(-255.91,334.65) N16(-216.54,334.65) N17(-177.17,334.65) N18(-137.8,334.65) N19(-98.43,334.65) N20(-59.06,334.65) N21(-19.69,334.65) N22(19.69,334.65) N23(59.06,334.65) N24(98.43,334.65) N25(137.8,334.65) N26(177.17,334.65) N27(216.54,334.65) N28(255.91,334.65) N29(295.28,334.65) N30(334.65,334.65) N31(374.02,334.65) N32(413.39,334.65) N33(452.76,334.65) N34(492.13,334.65) N35(531.5,334.65) N36(570.87,334.65) N37(610.24,334.65) N38(649.61,334.65) N39(688.98,334.65) N40(728.35,334.65) N41(767.72,334.65) N42(807.09,334.65) P1(-807.09,295.28) P2(-767.72,295.28) P3(-728.35,295.28) P4(-688.98,295.28) P5(-649.61,295.28) P6(-610.24,295.28) P7(-570.87,295.28) P8(-531.5,295.28) P9(-492.13,295.28) P10(-452.76,295.28) P11(-413.39,295.28) P12(-374.02,295.28) P13(-334.65,295.28) P14(-295.28,295.28) P15(-255.91,295.28) P16(-216.54,295.28) P17(-177.17,295.28) P18(-137.8,295.28) P19(-98.43,295.28) P20(-59.06,295.28) P21(-19.69,295.28) P22(19.69,295.28) P23(59.06,295.28) P24(98.43,295.28) P25(137.8,295.28) P26(177.17,295.28) P27(216.54,295.28) P28(255.91,295.28) P29(295.28,295.28) P30(334.65,295.28) P31(374.02,295.28) P32(413.39,295.28) P33(452.76,295.28) P34(492.13,295.28) P35(531.5,295.28) P36(570.87,295.28) P37(610.24,295.28) P38(649.61,295.28) P39(688.98,295.28) P40(728.35,295.28) P41(767.72,295.28) P42(807.09,295.28) R2(-767.72,255.91) R3(-728.35,255.91) R4(-688.98,255.91) R5(-649.61,255.91) R6(-610.24,255.91) R7(-570.87,255.91) R8(-531.5,255.91) R9(-492.13,255.91) R10(-452.76,255.91) R11(-413.39,255.91) R12(-374.02,255.91) R13(-334.65,255.91) R14(-295.28,255.91) R15(-255.91,255.91) R16(-216.54,255.91) R17(-177.17,255.91) R18(-137.8,255.91) R19(-98.43,255.91) R20(-59.06,255.91) R21(-19.69,255.91) R22(19.69,255.91) R23(59.06,255.91) R24(98.43,255.91) R25(137.8,255.91) R26(177.17,255.91) R27(216.54,255.91) R28(255.91,255.91) R29(295.28,255.91) R30(334.65,255.91) R31(374.02,255.91) R32(413.39,255.91) R33(452.76,255.91) R34(492.13,255.91) R35(531.5,255.91) R36(570.87,255.91) R37(610.24,255.91) R38(649.61,255.91) R39(688.98,255.91) R40(728.35,255.91) R41(767.72,255.91) R42(807.09,255.91) T2(-767.72,216.54) T3(-728.35,216.54) T4(-688.98,216.54) T5(-649.61,216.54) T6(-610.24,216.54) T7(-570.87,216.54) T8(-531.5,216.54) T9(-492.13,216.54) T10(-452.76,216.54) T11(-413.39,216.54) T12(-374.02,216.54) T13(-334.65,216.54) T14(-295.28,216.54) T15(-255.91,216.54) T16(-216.54,216.54) T17(-177.17,216.54) T18(-137.8,216.54) T19(-98.43,216.54) T20(-59.06,216.54) T21(-19.69,216.54) T22(19.69,216.54) T23(59.06,216.54) T24(98.43,216.54) T25(137.8,216.54) T26(177.17,216.54) T27(216.54,216.54) T28(255.91,216.54) T29(295.28,216.54) T30(334.65,216.54) T31(374.02,216.54) T32(413.39,216.54) T33(452.76,216.54) T34(492.13,216.54) T35(531.5,216.54) T36(570.87,216.54) T37(610.24,216.54) T38(649.61,216.54) T39(688.98,216.54) T40(728.35,216.54) T41(767.72,216.54) T42(807.09,216.54) U1(-807.09,177.17) U2(-767.72,177.17) U3(-728.35,177.17) U4(-688.98,177.17) U5(-649.61,177.17) U6(-610.24,177.17) U7(-570.87,177.17) U8(-531.5,177.17) U9(-492.13,177.17) U10(-452.76,177.17) U11(-413.39,177.17) U12(-374.02,177.17) U13(-334.65,177.17) U14(-295.28,177.17) U15(-255.91,177.17) U16(-216.54,177.17) U17(-177.17,177.17) U18(-137.8,177.17) U19(-98.43,177.17) U20(-59.06,177.17) U21(-19.69,177.17) U22(19.69,177.17) U23(59.06,177.17) U24(98.43,177.17) U25(137.8,177.17) U26(177.17,177.17) U27(216.54,177.17) U28(255.91,177.17) U29(295.28,177.17) U30(334.65,177.17) U31(374.02,177.17) U32(413.39,177.17) U33(452.76,177.17) U34(492.13,177.17) U35(531.5,177.17) U36(570.87,177.17) U37(610.24,177.17) U38(649.61,177.17) U39(688.98,177.17) U40(728.35,177.17) U41(767.72,177.17) U42(807.09,177.17) V1(-807.09,137.8) V2(-767.72,137.8) V3(-728.35,137.8) V4(-688.98,137.8) V5(-649.61,137.8) V6(-610.24,137.8) V7(-570.87,137.8) V8(-531.5,137.8) V9(-492.13,137.8) V10(-452.76,137.8) V11(-413.39,137.8) V12(-374.02,137.8) V13(-334.65,137.8) V14(-295.28,137.8) V15(-255.91,137.8) V16(-216.54,137.8) V17(-177.17,137.8) V18(-137.8,137.8) V19(-98.43,137.8) V20(-59.06,137.8) V21(-19.69,137.8) V22(19.69,137.8) V23(59.06,137.8) V24(98.43,137.8) V25(137.8,137.8) V26(177.17,137.8) V27(216.54,137.8) V28(255.91,137.8) V29(295.28,137.8) V30(334.65,137.8) V31(374.02,137.8) V32(413.39,137.8) V33(452.76,137.8) V34(492.13,137.8) V35(531.5,137.8) V36(570.87,137.8) V37(610.24,137.8) V38(649.61,137.8) V39(688.98,137.8) V40(728.35,137.8) V41(767.72,137.8) V42(807.09,137.8) W1(-807.09,98.43) W2(-767.72,98.43) W3(-728.35,98.43) W4(-688.98,98.43) W5(-649.61,98.43) W6(-610.24,98.43) W7(-570.87,98.43) W8(-531.5,98.43) W9(-492.13,98.43) W10(-452.76,98.43) W11(-413.39,98.43) W12(-374.02,98.43) W13(-334.65,98.43) W14(-295.28,98.43) W15(-255.91,98.43) W16(-216.54,98.43) W17(-177.17,98.43) W18(-137.8,98.43) W19(-98.43,98.43) W20(-59.06,98.43) W21(-19.69,98.43) W22(19.69,98.43) W23(59.06,98.43) W24(98.43,98.43) W25(137.8,98.43) W26(177.17,98.43) W27(216.54,98.43) W28(255.91,98.43) W29(295.28,98.43) W30(334.65,98.43) W31(374.02,98.43) W32(413.39,98.43) W33(452.76,98.43) W34(492.13,98.43) W35(531.5,98.43) W36(570.87,98.43) W37(610.24,98.43) W38(649.61,98.43) W39(688.98,98.43) W40(728.35,98.43) W41(767.72,98.43) W42(807.09,98.43) Y1(-807.09,59.06) Y2(-767.72,59.06) Y3(-728.35,59.06) Y4(-688.98,59.06) Y5(-649.61,59.06) Y6(-610.24,59.06) Y7(-570.87,59.06) Y8(-531.5,59.06) Y9(-492.13,59.06) Y10(-452.76,59.06) Y11(-413.39,59.06) Y12(-374.02,59.06) Y13(-334.65,59.06) Y14(-295.28,59.06) Y15(-255.91,59.06) Y16(-216.54,59.06) Y17(-177.17,59.06) Y18(-137.8,59.06) Y19(-98.43,59.06) Y20(-59.06,59.06) Y21(-19.69,59.06) Y22(19.69,59.06) Y23(59.06,59.06) Y24(98.43,59.06) Y25(137.8,59.06) Y26(177.17,59.06) Y27(216.54,59.06) Y28(255.91,59.06) Y29(295.28,59.06) Y30(334.65,59.06) Y31(374.02,59.06) Y32(413.39,59.06) Y33(452.76,59.06) Y34(492.13,59.06) Y35(531.5,59.06) Y36(570.87,59.06) Y37(610.24,59.06) Y38(649.61,59.06) Y39(688.98,59.06) Y40(728.35,59.06) Y41(767.72,59.06) Y42(807.09,59.06)
Top Overlay:
  lines w8: -832.61,797.24 -832.61,832.61 -797.24,832.61 ; -832.61,797.24 -832.61,-832.61 832.61,-832.61 832.61,832.61 -797.24,832.61 ; -832.61,797.24 -797.24,832.61
Top Solder:
  drawing of 1738 lines, arcs and shapes, not listed